# EAGLE library part SWITCH-ALPS_EC12E_SW (library afx-01)
ALPS rotary Encoder EC12E series with switch
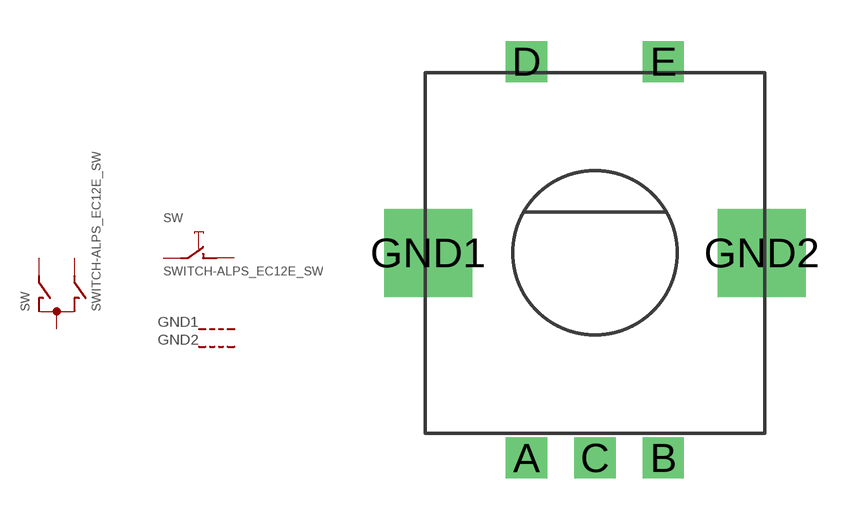
[diagram p3: symbol with the pads of SWITCH-ALPS_ALPS_EC12E_SW; footprint SWITCH-ALPS_ALPS_EC12E_SW]

Designator prefix SW; gates G$1=SWITCH-ALPS_ENCODER G$2=SWITCH-ALPS_TASTER G$3=SWITCH-ALPS_GEHAEUSEANSCHLUSS G$4=SWITCH-ALPS_GEHAEUSEANSCHLUSS

## SWITCH-ALPS_EC12E_SW (MPN: EC12E2424407; OC_FARNELL: 1520813; OC_NEWARK: 74M1068)  [SWITCH-ALPS_ALPS_EC12E_SW]
A  G$1:A  pas
B  G$1:B  pas
C  G$1:C  pas
D  G$2:1  pas
E  G$2:2  pas
GND1  G$3:G  pas
GND2  G$4:G  pas

## Footprint SWITCH-ALPS_ALPS_EC12E_SW (pad centres in mm)
ALPS rotary encoder EC12E series with push-on switch
drill 1 square: A -2.5,-7.5; B 2.5,-7.5; C 0,-7.5; D -2.5,7; E 2.5,7
drill 2.2 square: GND1 -6.1,0; GND2 6.1,0